# Altium footprint library Passives.PcbLib: 32 footprints (part 2 of 2)
Each footprint in its own frame and in the unit in brackets; x right, y up, seen from the top. Pads: shape width x height; smd on the part's side, far side on the other; paste and mask are expansions set on the pad; w line width, h text height; cw(c..) or ccw(c..) is an arc to the next point about the centre after c.
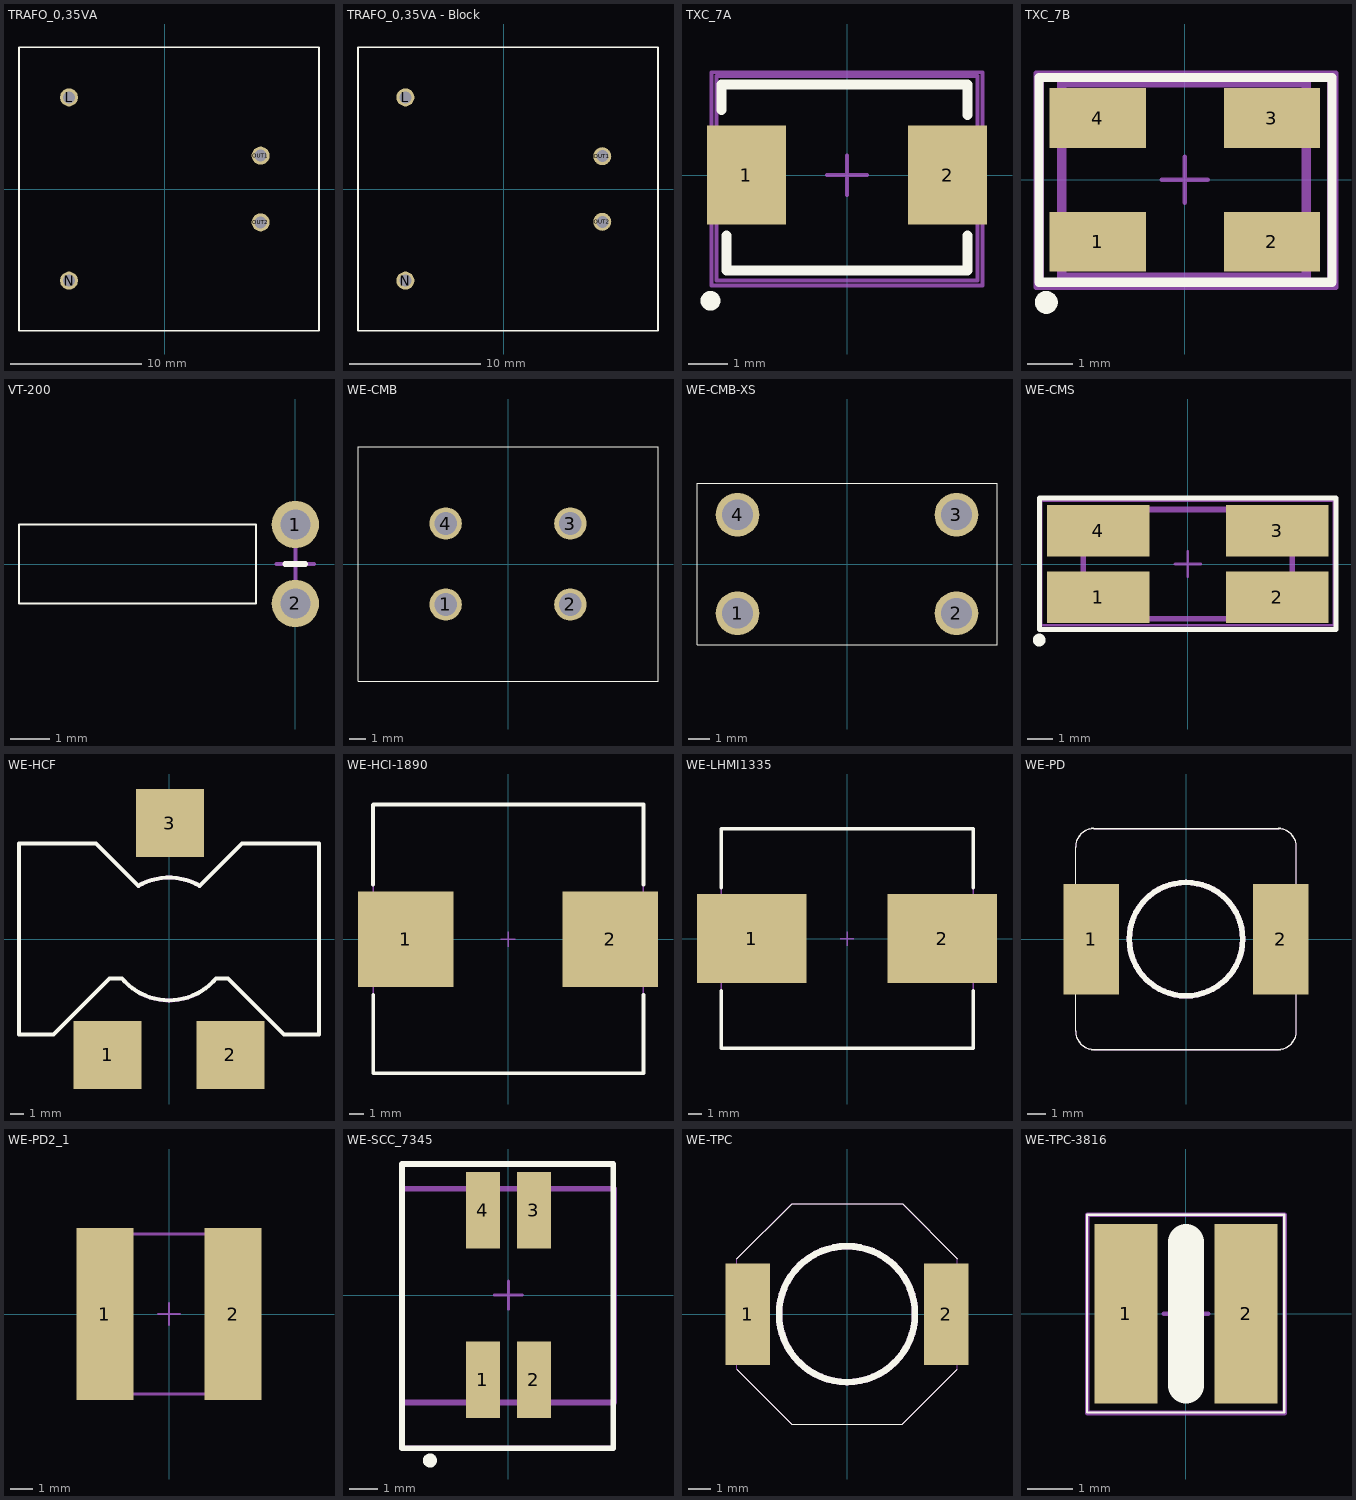
[diagram p1: the footprints below, top view; thin cyan lines are the x and y axes]

## TRAFO_0,35VA [mil] "TRAFO_0,35VA"
pads (4):
  round 54 hole 36: L(-287.5,275) N(-287.5,-275) OUT1(287.5,100) OUT2(287.5,-100)
Top Overlay:
  lines w5: -437.5,-425 -437.5,425 462.5,425 462.5,-425 -437.5,-425
3D body: height 551.18, standoff 19.68, extent -437.5,-424.7 462.11,424.21
3D body: height 748.03, standoff 551.18, extent -437.5,-230.4 462.6,239.07

## TRAFO_0,35VA - Block [mil] "VB 0.35/1/6"
pads (4):
  round 54 hole 36: L(-295.28,275) N(-295.28,-275) OUT1(295.28,98.43) OUT2(295.28,-98.43)
Top Overlay:
  lines w5: -437.5,-425 -437.5,425 462.5,425 462.5,-425 -437.5,-425
3D body: height 551.18, standoff 19.68, extent -437.5,-424.7 462.11,424.21
3D body: height 748.03, standoff 551.18, extent -437.5,-230.4 462.6,239.07

## TXC_7A [mm]
height 1.3
pads (2):
  rect 2x2.5 smd: 1(-2.54,0) 2(2.54,0)
Top Overlay:
  circle w0.25: c-3.45,-3.175 r0.125
  lines w0.254: -3.175,1.651 -3.175,2.286 -1.27,2.286 1.27,2.286 3.048,2.286 3.048,1.524 ; -3.048,-1.524 -3.048,-2.413 -1.27,-2.413 1.27,-2.413 3.048,-2.413 3.048,-1.524
Mechanical 13:
  lines w0.1: -3.302,-2.667 3.302,-2.667 3.302,2.5 -3.302,2.5 -3.302,-2.667
Mechanical 15:
  lines w0.1: -0.5,0 0.5,0 ; 0,-0.5 0,0.5 ; -3.429,-2.794 3.429,-2.794 3.429,2.6 -3.429,2.6 -3.429,-2.794
3D body: height 1.3, standoff 0, extent -3.175,-2.413 3.048,2.246

## TXC_7B [mm]
height 1.3
pads (4):
  rect 2.1x1.3 smd: 1(-1.9,-1.35) 2(1.9,-1.35) 3(1.9,1.35) 4(-1.9,1.35)
Top Overlay:
  circle w0.25: c-3.025,-2.675 r0.125
  lines w0.2: -3.187,-2.238 -3.187,2.238 3.213,2.238 3.213,-2.238 -3.187,-2.238
Mechanical 1:
  lines w0.2: -2.688,-2.125 -2.688,2.113 2.65,2.113 2.65,-2.125 -2.688,-2.125
Mechanical 13:
  lines w0.1: -3.125,-2.2 -3.125,2.2 3.15,2.2 3.15,-2.2 -3.125,-2.2
Mechanical 15:
  lines w0.1: -0.5,0 0.5,0 ; 0,-0.5 0,0.5 ; -3.25,-2.35 -3.25,2.338 3.3,2.338 3.3,-2.35 -3.25,-2.35
3D body: height 1.3, standoff 0, extent -2.688,-2.15 2.65,2.113

## VT-200 [mm] "Crystal, 32.768kHz"
height 2
pads (2):
  round 1.2 hole 0.762: 1(0,1) 2(0,-1)
Top Overlay:
  lines w0.05: -7,-1 -7,1 -1,1 -1,-1 -7,-1
  lines w0.14: -0.258,0 0.25,0
Mechanical 1:
  lines w0.1: -0.475,0 0.475,0 ; 0,-0.475 0,0.475
3D body: height 2.09, standoff 0.1, extent -6.975,-0.973 -0.975,1.023

## WE-CMB [mm] "Filter choke"
height 22
pads (4):
  round 2 hole 1.4: 1(-3.85,-2.5) 2(3.85,-2.5) 3(3.85,2.5) 4(-3.85,2.5)
Top Overlay:
  lines w0.05: -9.263,-7.25 -9.263,7.25 9.263,7.25 9.263,-7.25 -9.263,-7.25
3D body "WE-CMB_HC_Typ_S1.stp": height 20, standoff -3.4, extent -7.722,-6.412 7.997,6.588

## WE-CMB-XS [mm] "Filter choke"
height 18
pads (4):
  round 2 hole 1.4: 1(-5,-2.25) 2(5,-2.25) 3(5,2.25) 4(-5,2.25)
Top Overlay:
  lines w0.05: -6.85,-3.688 -6.85,3.688 6.85,3.688 6.85,-3.688 -6.85,-3.688
3D body "WE-CMB_Type_XS.stp": height 16.32, standoff -3.5, extent -6.885,-3.75 6.909,3.75

## WE-CMS [mm]
height 1.3
pads (4):
  rect 4x2 smd: 1(-3.5,-1.3) 2(3.5,-1.3) 3(3.5,1.3) 4(-3.5,1.3)
Top Overlay:
  circle w0.25: c-5.813,-2.975 r0.125
  lines w0.2: -5.8,-2.562 5.8,-2.562 5.8,2.575 -5.8,2.575 -5.8,-2.562
Mechanical 1:
  lines w0.2: -4.088,-2.125 4.088,-2.125 4.088,2.113 -4.088,2.113 -4.088,-2.125
Mechanical 13:
  lines w0.1: -4.075,-2.2 4.088,-2.2 4.088,2.2 -4.075,2.2 -4.075,-2.2
Mechanical 15:
  lines w0.1: -0.5,0 0.5,0 ; 0,-0.5 0,0.5 ; -5.737,-2.4 5.713,-2.4 5.713,2.475 -5.737,2.475 -5.737,-2.4
3D body "7427521.stp": height 3.25, standoff 0.05, extent -4.45,-2.819 4.45,2.781

## WE-HCF [mm]
pads (3):
  rect 5x5 smd: 1(-4.5,-8.5) 2(4.5,-8.5) 3(0.062,8.5)
Top Overlay:
  lines w0.3: -11,-7 -8.475,-7 -4.368,-2.893 -3.447,-2.893 ccw(c0,0) 3.447,-2.893 4.318,-2.893 8.425,-7 11,-7 11,7 5.353,7 2.25,3.897 ccw(c0,0) -2.25,3.897 -5.353,7 -11,7 -11,-7
Mechanical 15:
  lines w0.3: -2.25,-3.897 ccw(c0,0) 2.25,-3.897 ; -2.25,3.897 cw(c0,0) 2.25,3.897
3D body "WE-HCF-2013.stp": height 14.5, standoff 0.5, extent -10.725,-10.475 10.775,10.525

## WE-HCI-1890 [mm] "Chip , Body 18.2x18.2"
height 8.9
pads (2):
  rect 6.5x6.5 smd: 1(-6.95,0) 2(6.95,0)
Top Overlay:
  lines w0.254: -9.188,3.712 -9.188,9.137 -9.162,9.162 9.213,9.162 9.213,3.712 ; -9.162,-3.788 -9.162,-9.125 9.213,-9.125 9.213,-3.788
Mechanical 13:
  lines w0.1: -9.162,-9.15 -9.162,9.175 9.213,9.175 9.213,-9.15 -9.162,-9.15
Mechanical 15:
  lines w0.1: -0.5,0 0.5,0 ; 0,-0.5 0,0.5 ; -9.175,-9.138 -9.175,9.175 9.213,9.175 9.213,-9.138 -9.175,-9.138
3D body "WE-HCI-1890_MNZN.stp": height 9.15, standoff 0.25, extent -9.138,-9.1 9.162,9.1

## WE-LHMI1335 [mm] "Chip , Body 18.2x18.2"
height 8.9
pads (2):
  rect 8x6.5 smd: 1(-6.95,0) 2(6.95,0)
Top Overlay:
  lines w0.254: -9.188,3.712 -9.188,8.013 9.213,8.013 9.213,3.712 ; -9.162,-3.788 -9.162,-8.013 9.213,-8.013 9.213,-3.788
Mechanical 13:
  lines w0.1: -9.162,-8.013 -9.162,8.013 9.213,8.013 9.213,-8.013 -9.162,-8.013
Mechanical 15:
  lines w0.1: -0.5,0 0.5,0 ; 0,-0.5 0,0.5 ; -9.175,-8.063 -9.175,7.975 9.213,7.975 9.213,-8.063 -9.175,-8.063
3D body "STEP-WE-LHMI-1335-rev1.stp": height 3.4, standoff 0.1, extent -6.6,-6.613 6.9,5.987

## WE-PD [mm]
pads (2):
  rect 3x6 smd: 1(-5.15,0) 2(5.15,0)
Top Overlay:
  circle w0.3: c0,0 r3.08
  lines w0.05: 5,5.988 cw(c5,4.988) 6,4.988 6,-5.012 cw(c5,-5.012) 5,-6.013 -5,-6.013 cw(c-5,-5.012) -6,-5.012 -6,4.988 cw(c-5,4.988) -5,5.988 5.075,5.988 ; 5,6.025 cw(c5,5.025) 6,5.025 6,-4.975 cw(c5,-4.975) 5,-5.975 -5,-5.975 cw(c-5,-4.975) -6,-4.975 -6,5.025 cw(c-5,5.025) -5,6.025 5.075,6.025
Mechanical 15:
  circle w0.3: c0,0 r3.08
  lines w0.05: 5,6 cw(c5,5) 6,5 6,-5 cw(c5,-5) 5,-6 -5,-6 cw(c-5,-5) -6,-5 -6,5 cw(c-5,5) -5,6 5.075,6
3D body "WE-PD_1280_Metal.stp": height 7.95, standoff -0.05, extent -6,-5.987 6,6.013

## WE-PD2_1 [mm]
pads (2):
  rect 2.5x7.5 smd: 1(-2.794,0) 2(2.794,0)
Mechanical 1:
  lines w0.127: -1.744,-3.488 cw(c0,0) -1.744,3.488 1.744,3.488 cw(c0,0) 1.744,-3.488 -1.744,-3.488
Mechanical 15:
  lines w0.1: -0.475,0 0.475,0 ; 0,-0.475 0,0.475
  lines w0.127: -1.75,-3.5 cw(c0,0) -1.75,3.5 1.75,3.5 cw(c0,0) 1.75,-3.5 -1.75,-3.5
3D body "WE-PD2_7850_2.stp": height 5, standoff 0.05, extent -3.819,-3.5 3.807,3.5

## WE-SCC_7345 [mm]
height 1.3
pads (4):
  rect 1.2x2.7 smd: 1(-0.9,-3) 2(0.9,-3) 3(0.9,3) 4(-0.9,3)
Top Overlay:
  circle w0.25: c-2.775,-5.85 r0.125
  lines w0.2: -3.762,-5.413 3.712,-5.413 3.712,4.637 -3.762,4.637 -3.762,-5.413
Mechanical 1:
  lines w0.2: -3.762,-3.8 3.738,-3.8 3.738,3.762 -3.762,3.762 -3.762,-3.8
Mechanical 15:
  lines w0.1: -0.5,0 0.5,0 ; 0,-0.5 0,0.5 ; -3.762,-5.375 3.688,-5.375 3.688,4.613 -3.762,4.613 -3.762,-5.375
3D body "WE-SCC_7345.stp": height 5.8, standoff 1, extent -3.65,-3.669 3.65,3.631

## WE-TPC [mm]
pads (2):
  rect 2x4.6 smd: 1(-4.5,0) 2(4.5,0)
Top Overlay:
  circle w0.3: c0,0 r3.08
  lines w0.05: -5,-2.5 -2.5,-5 2.5,-5 5,-2.5 ; -5,2.5 -2.488,5.012 2.525,5.012 4.988,2.512
Mechanical 15:
  circle w0.3: c0,0 r3.08
  lines w0.05: -5,-2.5 -5,2.5 -2.5,5 2.5,5 5,2.5 5,-2.5 2.5,-5 -2.5,-5 -5,-2.5
3D body "WE-TPC_1028.stp": height 3, standoff 0.22, extent -4.994,-4.994 5.006,5.006

## WE-TPC-3816 [mm] "Chip , Body 5.7x6.4mm, IPC High Density"
height 1.4
pads (2):
  rect 1.4x4 smd: 1(-1.338,0) 2(1.338,0)
Top Overlay:
  lines w0.05: -2.2,-2.2 -2.2,2.2 2.187,2.2 2.187,-2.2 -2.2,-2.2
  lines w0.8: 0,-1.6 0,1.6
Mechanical 13:
  lines w0.1: -2.2,-2.2 2.2,-2.2 2.2,2.2 -2.2,2.2 -2.2,-2.2
Mechanical 15:
  lines w0.1: -0.5,0 0.5,0 ; 0,-0.5 0,0.5 ; -2.2,-2.213 2.2,-2.213 2.2,2.2 -2.2,2.2 -2.2,-2.213
3D body "WE-TPC_3816.stp": height 1.7, standoff 0.05, extent -1.888,-1.9 1.912,1.9